# Altium footprint library Custom Components.PcbLib: 24 footprints (part 1 of 2)
Each footprint in its own frame and in the unit in brackets; x right, y up, seen from the top. Pads: shape width x height; smd on the part's side, far side on the other; paste and mask are expansions set on the pad; w line width, h text height; cw(c..) or ccw(c..) is an arc to the next point about the centre after c.
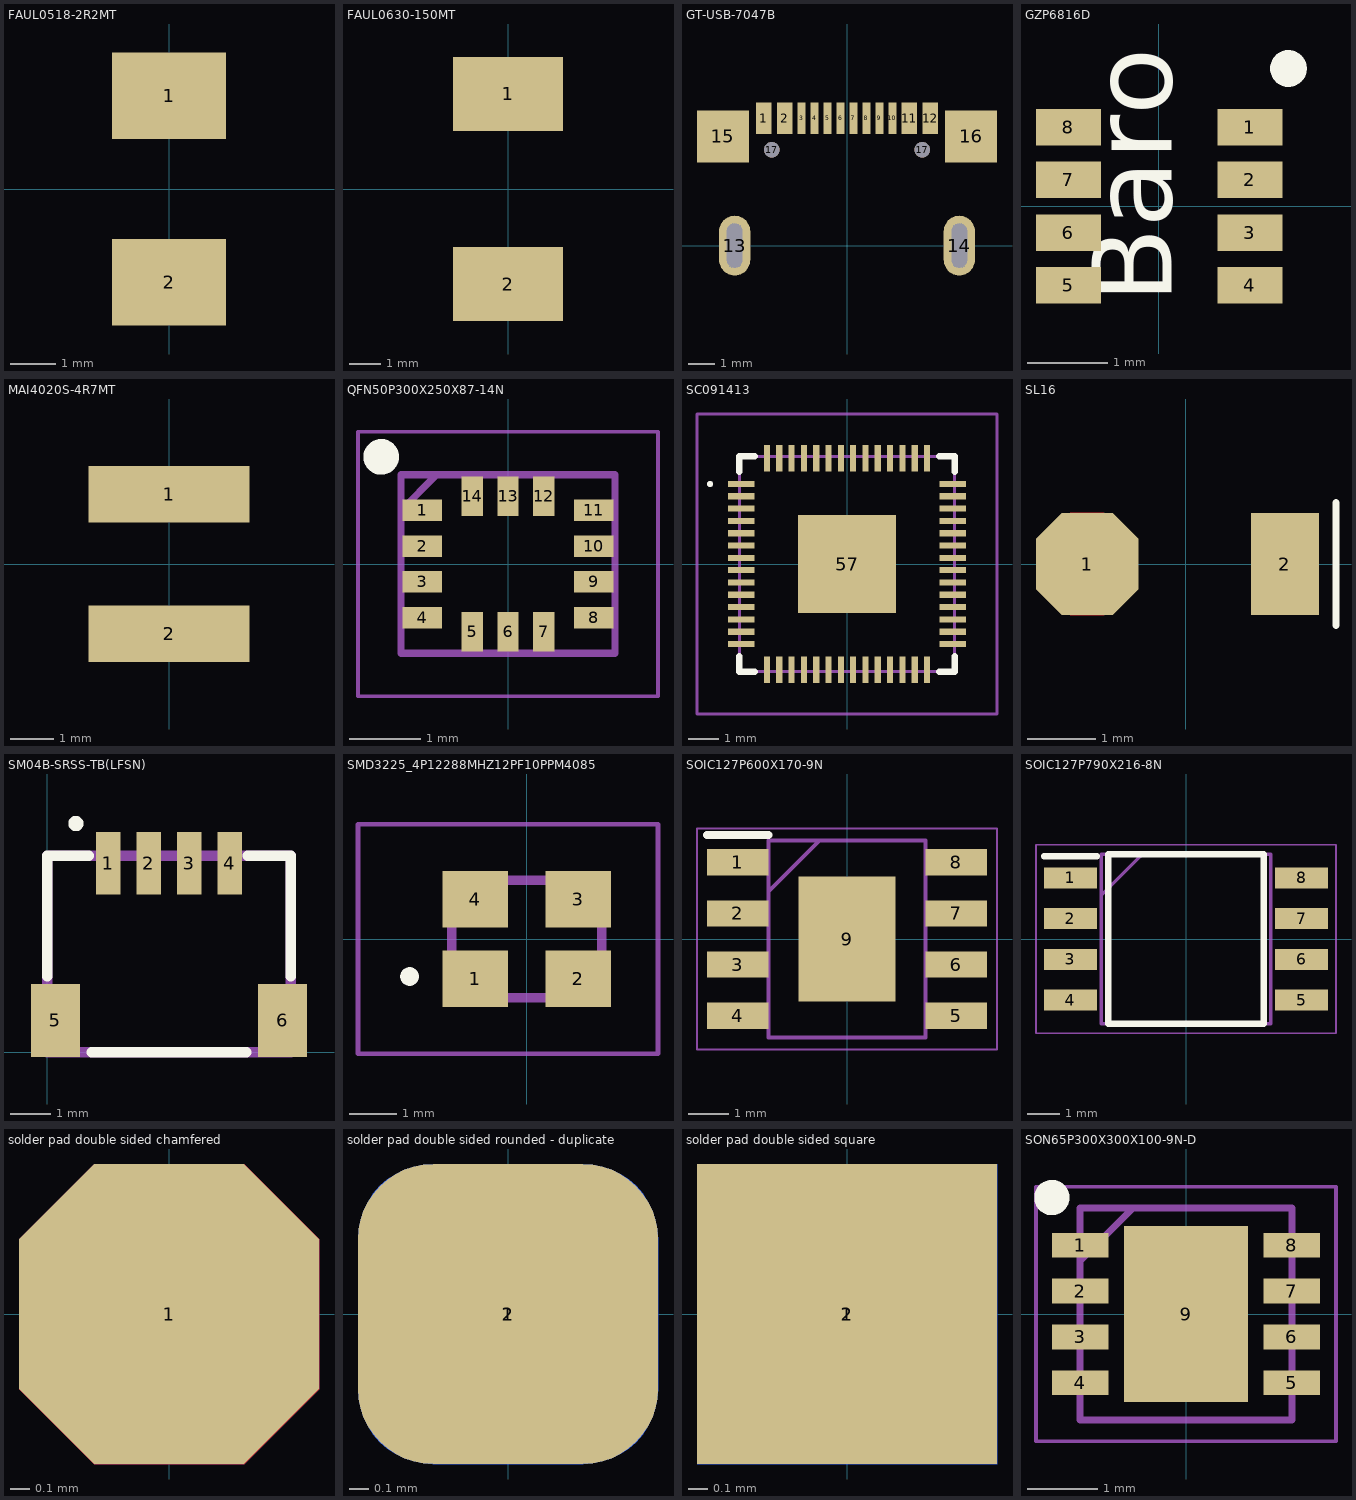
[diagram p0: the footprints below, top view; thin cyan lines are the x and y axes]

## FAUL0518-2R2MT [mm]
pads (2):
  rect 2.5x1.9 smd: 1(0,2.05) 2(0,-2.05)
3D body: height 1.6, standoff 0, extent -2.6,-2.7 2.6,2.7

## FAUL0630-150MT [mm]
pads (2):
  rect 3.5x2.35 smd: 1(0,3.025) 2(0,-3.025)
3D body: height 2.8, standoff 0, extent -3.3,-3.5 3.3,3.5

## GT-USB-7047B [mm]
pads (18):
  rect 0.6x1.2 smd: 1(-3.2,4.9) 2(-2.4,4.9) 11(2.4,4.9) 12(3.2,4.9)
  rect 0.3x1.2 smd: 3(-1.75,4.9) 4(-1.25,4.9) 5(-0.75,4.9) 6(-0.25,4.9) 7(0.25,4.9) 8(0.75,4.9) 9(1.25,4.9) 10(1.75,4.9)
  oval 1.2x2.3 hole 0.6 slot 1.7 at 90 deg: 13(-4.32,0) 14(4.32,0)
  rect 2x2 smd: 15(-4.77,4.2) 16(4.77,4.2)
  round 0.6 hole 0.6 unplated: 17(-2.89,3.68) 17(2.89,3.68)
3D body: height 2.4, standoff 0, extent -4.3,-1.2 -1.9,4.9
3D body: height 2.4, standoff 0, extent 2,-1.2 4.4,4.9
3D body: height 2.4, standoff 0, extent -3.1,-1.2 3.2,4.9

## GZP6816D [mm]
pads (8):
  rect 0.8x0.45 smd: 1(1.125,0.975) 2(1.125,0.325) 3(1.125,-0.325) 4(1.125,-0.975) 5(-1.117,-0.975) 6(-1.117,-0.325) 7(-1.117,0.325) 8(-1.117,0.975)
Top Overlay:
  circle w0.254: c1.6,1.7 r0.1
  text "Baro" at 0.487,-1.2 h1.7

## MAI4020S-4R7MT [mm]
pads (2):
  rect 3.7x1.3 smd: 1(0,1.6) 2(0,-1.6)
3D body: height 2, standoff 0, extent -2,-2 2,2

## QFN50P300X250X87-14N [mm]
pads (14):
  rect 0.55x0.3 smd: 1(-1.2,0.75) 2(-1.2,0.25) 3(-1.2,-0.25) 4(-1.2,-0.75) 8(1.2,-0.75) 9(1.2,-0.25) 10(1.2,0.25) 11(1.2,0.75)
  rect 0.3x0.55 smd: 5(-0.5,-0.95) 6(0,-0.95) 7(0.5,-0.95) 12(0.5,0.95) 13(0,0.95) 14(-0.5,0.95)
Top Overlay:
  circle w0.25: c-1.775,1.5 r0.125
Mechanical 13:
  lines w0.1: -1.5,0.75 -1,1.25 ; -1.5,-1.25 -1.5,1.25 1.5,1.25 1.5,-1.25 -1.5,-1.25
Mechanical 15:
  lines w0.05: -2.1,-1.85 -2.1,1.85 2.1,1.85 2.1,-1.85 -2.1,-1.85
3D body "BMI270.stp": height 0.87, standoff 0, extent -1.55,-1.3 1.55,1.3

## SC091413 [mm]
pads (57):
  rect 0.875x0.2 smd: 1(-3.438,2.6) 2(-3.438,2.2) 3(-3.438,1.8) 4(-3.438,1.4) 5(-3.438,1) 6(-3.438,0.6) 7(-3.438,0.2) 8(-3.438,-0.2) 9(-3.438,-0.6) 10(-3.438,-1) 11(-3.438,-1.4) 12(-3.438,-1.8) 13(-3.438,-2.2) 14(-3.438,-2.6) 29(3.438,-2.6) 30(3.438,-2.2) 31(3.438,-1.8) 32(3.438,-1.4) 33(3.438,-1) 34(3.438,-0.6) 35(3.438,-0.2) 36(3.438,0.2) 37(3.438,0.6) 38(3.438,1) 39(3.438,1.4) 40(3.438,1.8) 41(3.438,2.2) 42(3.438,2.6)
  rect 0.2x0.875 smd: 15(-2.6,-3.438) 16(-2.2,-3.438) 17(-1.8,-3.438) 18(-1.4,-3.438) 19(-1,-3.438) 20(-0.6,-3.438) 21(-0.2,-3.438) 22(0.2,-3.438) 23(0.6,-3.438) 24(1,-3.438) 25(1.4,-3.438) 26(1.8,-3.438) 27(2.2,-3.438) 28(2.6,-3.438) 43(2.6,3.438) 44(2.2,3.438) 45(1.8,3.438) 46(1.4,3.438) 47(1,3.438) 48(0.6,3.438) 49(0.2,3.438) 50(-0.2,3.438) 51(-0.6,3.438) 52(-1,3.438) 53(-1.4,3.438) 54(-1.8,3.438) 55(-2.2,3.438) 56(-2.6,3.438)
  rect 3.2x3.2 smd: 57(0,0)
Top Overlay:
  lines w0.1: -4.5,2.6 cw(c-4.45,2.6) -4.4,2.6 cw(c-4.45,2.6) -4.5,2.6
  lines w0.2: -3.5,-3 -3.5,-3.5 -3,-3.5 ; -3.5,3 -3.5,3.5 -3,3.5 ; 3,-3.5 3.5,-3.5 3.5,-3 ; 3,3.5 3.5,3.5 3.5,3
Mechanical 13:
  lines w0.1: -3.5,-3.5 3.5,-3.5 3.5,3.5 -3.5,3.5 -3.5,-3.5
Mechanical 15:
  lines w0.1: -4.875,-4.875 4.875,-4.875 4.875,4.875 -4.875,4.875 -4.875,-4.875
3D body "SC0914_13_.stp": height 1, standoff 0, extent -3.855,-3.855 3.855,3.855

## SL16 [mm]
pads (2):
  oct 1.5x1.5 smd: 1(-1.45,0)
  rect 1x1.5 smd: 2(1.45,0)
Top Layer:
  region: -1.95,-0.5 -1.7,-0.75 -1.2,-0.75 -0.95,-0.5 -0.95,0.5 -1.2,0.75 -1.7,0.75 -1.95,0.5
Top Overlay:
  lines w0.1: 2.2,-0.9 2.2,0.9
3D body: height 1.1, standoff 0, extent -1.4,-0.95 1.4,0.95

## SM04B-SRSS-TB(LFSN) [mm]
pads (6):
  rect 0.6x1.55 smd: 1(1.5,4.661) 2(2.5,4.661) 3(3.5,4.661) 4(4.5,4.661)
  rect 1.2x1.8 smd: 5(0.2,0.786) 6(5.8,0.786)
Top Overlay:
  circle w0.254: c0.702,5.642 r0.06
  lines w0.254: 0,1.87 0,4.85 1.029,4.85 ; 1.094,0 4.903,0 ; 4.937,4.85 6,4.85 6,1.87
Mechanical 13:
  lines w0.254: 0,0 0,4.85 6,4.85 6,0 0,0
3D body "SM04B-SRSS-TB_LF__SN_.stp": height 2.97, standoff 0.01, extent 0,0.285 6,5.234

## SMD3225_4P12288MHZ12PF10PPM4085 [mm]
pads (4):
  rect 1.4x1.2 smd: 1(-1.1,-0.85) 2(1.1,-0.85) 3(1.1,0.85) 4(-1.1,0.85)
Top Overlay:
  lines w0.2: -2.6,-0.8 cw(c-2.5,-0.8) -2.4,-0.8 cw(c-2.5,-0.8) -2.6,-0.8
Mechanical 13:
  lines w0.2: -1.6,-1.25 -1.6,1.25 1.6,1.25 1.6,-1.25 -1.6,-1.25
Mechanical 15:
  lines w0.1: -3.6,-2.45 -3.6,2.45 2.8,2.45 2.8,-2.45 -3.6,-2.45
3D body "SMD-3225_4P_12.288MHZ_12PF_10PPM_-40~+85℃.stp": height 0.9, standoff 0, extent -1.68,-1.33 1.68,1.33

## SOIC127P600X170-9N [mm]
pads (9):
  rect 1.525x0.65 smd: 1(-2.712,1.905) 2(-2.712,0.635) 3(-2.712,-0.635) 4(-2.712,-1.905) 5(2.712,-1.905) 6(2.712,-0.635) 7(2.712,0.635) 8(2.712,1.905)
  rect 2.4x3.1 smd: 9(0,0)
Top Overlay:
  lines w0.2: -3.475,2.58 -1.95,2.58
Mechanical 13:
  lines w0.1: -1.95,1.18 -0.68,2.45 ; -1.95,-2.45 -1.95,2.45 1.95,2.45 1.95,-2.45 -1.95,-2.45
Mechanical 15:
  lines w0.05: -3.725,-2.75 -3.725,2.75 3.725,2.75 3.725,-2.75 -3.725,-2.75
3D body "LM5013QDDARQ1.stp": height 1.57, standoff 0, extent -3,-2.45 3,2.45

## SOIC127P790X216-8N [mm]
pads (8):
  rect 1.65x0.65 smd: 1(-3.6,1.905) 2(-3.6,0.635) 3(-3.6,-0.635) 4(-3.6,-1.905) 5(3.6,-1.905) 6(3.6,-0.635) 7(3.6,0.635) 8(3.6,1.905)
Top Overlay:
  lines w0.2: -4.425,2.58 -2.775,2.58 ; -2.425,-2.64 2.425,-2.64 2.425,2.64 -2.425,2.64 -2.425,-2.64
Mechanical 13:
  lines w0.1: -2.64,1.37 -1.37,2.64 ; -2.64,-2.64 2.64,-2.64 2.64,2.64 -2.64,2.64 -2.64,-2.64
Mechanical 15:
  lines w0.05: -4.675,-2.94 4.675,-2.94 4.675,2.94 -4.675,2.94 -4.675,-2.94
3D body "W25Q16JVSSIQ.stp": height 2.16, standoff 0, extent -3.95,-2.64 3.95,2.64

## solder pad double sided chamfered [mil]
pads (2):
  oct 60x60 smd: 1(0,0)
  round 1 smd far side: 2(0,0)
Top Layer:
  region: -15,-30 -30,-15 -30,15 -15,30 15,30 30,15 30,-15 15,-30
Bottom Layer:
  region: -15,-30 -30,-15 -30,15 -15,30 15,30 30,15 30,-15 15,-30

## solder pad double sided rounded - duplicate [mil]
pads (2):
  rrect50% 60x60 smd: 1(0,0)
  rrect50% 60x60 smd far side: 2(0,0)

## solder pad double sided square [mil]
pads (2):
  rect 60x60 smd: 1(0,0)
  rect 60x60 smd far side: 2(0,0)

## SON65P300X300X100-9N-D [mm]
pads (9):
  rect 0.8x0.35 smd: 1(-1.5,0.975) 2(-1.5,0.325) 3(-1.5,-0.325) 4(-1.5,-0.975) 5(1.5,-0.975) 6(1.5,-0.325) 7(1.5,0.325) 8(1.5,0.975)
  rect 1.75x2.5 smd: 9(0,0)
Top Overlay:
  circle w0.25: c-1.9,1.65 r0.125
Mechanical 13:
  lines w0.1: -1.5,0.75 -0.75,1.5 ; -1.5,-1.5 -1.5,1.5 1.5,1.5 1.5,-1.5 -1.5,-1.5
Mechanical 15:
  lines w0.05: -2.125,-1.8 -2.125,1.8 2.125,1.8 2.125,-1.8 -2.125,-1.8
3D body "TPS78533QWDRBRQ1.stp": height 1, standoff 0, extent -1.5,-1.5 1.5,1.5